# Altium schematic symbol library LibraryPBL4.SchLib: 6 symbols
Pins are listed as number, name and electrical type; pins without a type are passive.

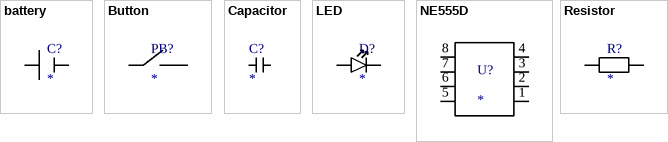
[diagram p0: symbols battery to Resistor]

## battery
designator C?
pins: + 12, - 12

## Button
designator PB?
pins: 8, 9

## Capacitor
designator C?
pins: ?1, ?2

## LED
designator D?
pins: IN, OUT

## NE555D
designator U?
pins: 1 GND, 2 TRIG, 3 OUT, 4 RST, 5 CONT, 6, 7, 8

## Resistor
designator R?
Value: 10k0
pins: 0, 1